# EAGLE library part 505070-0610 (library 504618-1010)
0.35mm Pitch SlimStack™ SSB6 Board-to-Board Receptacle, Surface Mount, Dual Row, Vertical, 0.60mm Stacking Height, 2....
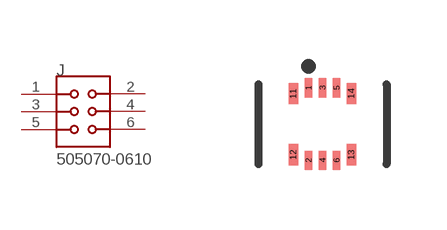
[diagram p0: symbol with the pads of MOLEX_5050700610; footprint MOLEX_5050700610]

Designator prefix J

## 505070-0610 (AVAILABILITY: Good; DESCRIPTION: 0.35mm Pitch SlimStack%E2%84%A2 SSB6 Board-to-Board Receptacle%2C Surface Mount%2C Dual Row%2C Vertical%2C 0.60mm Stacking Height%2C 2....; MF: Molex; MP: 504618-1010; PACKAGE: None; PRICE: 0.40 USD)  [MOLEX_5050700610]
1  1  pas
2  2  pas
3  3  pas
4  4  pas
5  5  pas
6  6  pas

## Footprint MOLEX_5050700610 (pad centres in mm)
smd 0.18 x 0.485: 1 -0.7,0.91; 2 -0.7,-0.91; 3 -0.35,0.91; 4 -0.35,-0.91; 5 0,0.91; 6 0,-0.91
smd 0.23 x 0.535: 11 -1.075,0.765; 12 -1.075,-0.765; 13 0.375,-0.765; 14 0.375,0.765